# EAGLE library part MICRO-SDCARD (library SparkFun-Boards-Custom)
microSD Card Footprint This is the mechnical footprint with connections for soldering a microSD card - NOT for a socket for the card. SparkFun Products: MicroSD Card with Adapter - 8 GB <https://www.sparkfun.com/products/11609> SparkFun microSD Sniffer <https://www.sparkfun.com/products/9419>
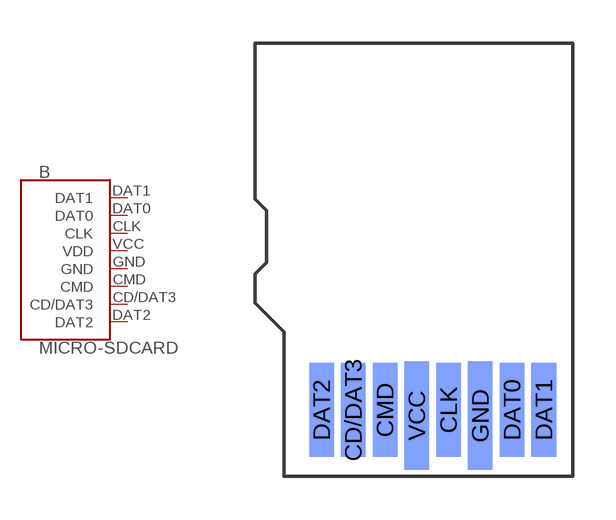
[diagram p0: symbol with the pads of MICRO-SDCARD; footprint MICRO-SDCARD]

Designator prefix B

## MICRO-SDCARD  [MICRO-SDCARD]
CD/DAT3  CD/DAT3
CLK  CLK
CMD  CMD
DAT0  DAT0
DAT1  DAT1
DAT2  DAT2
GND  GND  pwr
VCC  VDD  pwr

## Footprint MICRO-SDCARD (pad centres in mm)
microSD Card Footprint Silk outline with pads for SMD. Specifications: Pin count:8 Area:0.45x0.6 in Example device(s): MicroSD Card
smd 0.85 x 3.25 bottom: CD/DAT3 -2.52,-5.32; CLK 0.78,-5.32; CMD -1.42,-5.32; DAT0 2.98,-5.32; DAT1 4.08,-5.32; DAT2 -3.62,-5.32
smd 0.85 x 3.75 bottom: GND 1.88,-5.52; VCC -0.32,-5.52